# Altium schematic symbol library DAC7571.SchLib: 2 symbols
Pins are listed as number, name and electrical type; pins without a type are passive.

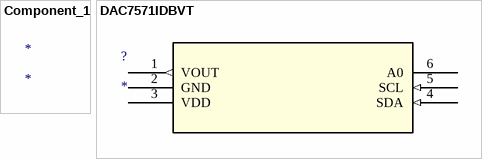
[diagram p0: symbols Component_1 to DAC7571IDBVT]

## Component_1
designator *

## DAC7571IDBVT
designator ?
Imported; Manufacturer_Part_Number: DAC7571IDBVT; Vendor: Texas Instruments; Section: Data Converters; C: Copyright (C) 2015 Accelerated Designs. All rights reserved; Family: DAC; Manufacturer_Name: Texas Instruments; RS Part Number: 4615971; Copyright: Copyright (C) 2015 Accelerated Designs. All rights reserved; RefDes: RefDes; Type: DEV; Value: Value
footprint DBV6
pins: 1 VOUT (out), 2 GND (power), 3 VDD (power), 4 SDA (in), 5 SCL (in), 6 A0